# EAGLE library part SAMACSYS_PARTS_IS61WV10248EDBLL-10TLI (library goJAMMAv02)
SRAM 8M, 2.4V-3.6V, 10ns LP Async SRAM Source: Datasheet <https://componentsearchengine.com/Datasheets/1/IS61WV10248EDBLL-10TLI.pdf>
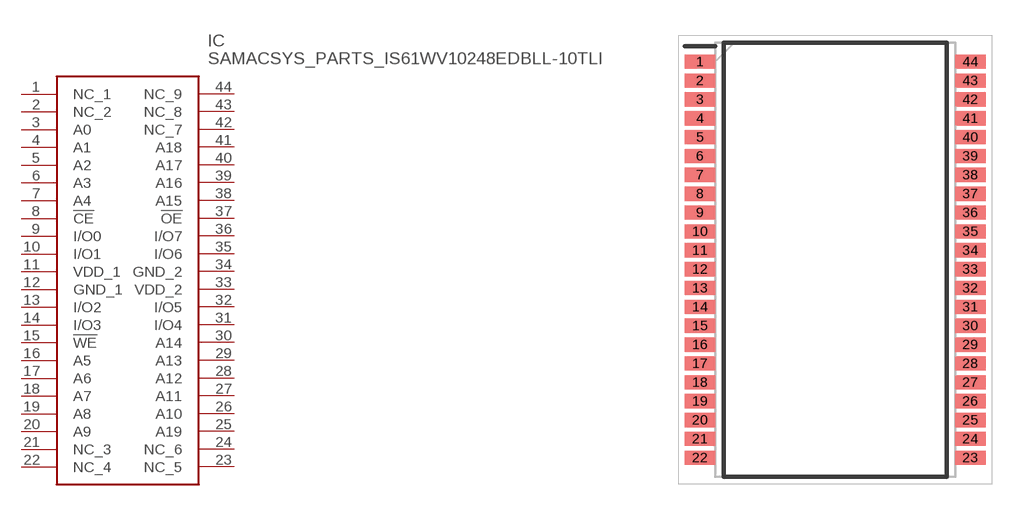
[diagram p5: symbol with the pads of SAMACSYS_PARTS_SOP80P1176X120-44N; footprint SAMACSYS_PARTS_SOP80P1176X120-44N]

Designator prefix IC

## SAMACSYS_PARTS_IS61WV10248EDBLL-10TLI (DESCRIPTION: SRAM 8M, 2.4V-3.6V, 10ns LP Async SRAM; HEIGHT: 1.2mm; MANUFACTURER_NAME: Integrated Silicon Solution Inc.; MANUFACTURER_PART_NUMBER: IS61WV10248EDBLL-10TLI; MOUSER_PART_NUMBER: 870-61WV10EDBLL10TLI)  [SAMACSYS_PARTS_SOP80P1176X120-44N]
1  NC_1
2  NC_2
3  A0
4  A1
5  A2
6  A3
7  A4
8  !CE
9  I/O0
10  I/O1
11  VDD_1
12  GND_1
13  I/O2
14  I/O3
15  !WE
16  A5
17  A6
18  A7
19  A8
20  A9
21  NC_3
22  NC_4
23  NC_5
24  NC_6
25  A19
26  A10
27  A11
28  A12
29  A13
30  A14
31  I/O4
32  I/O5
33  VDD_2
34  GND_2
35  I/O6
36  I/O7
37  !OE
38  A15
39  A16
40  A17
41  A18
42  NC_7
43  NC_8
44  NC_9

## Footprint SAMACSYS_PARTS_SOP80P1176X120-44N (pad centres in mm)
TSSOP44
smd 1.295 x 0.6: 1 -5.728,8.4; 2 -5.728,7.6; 3 -5.728,6.8; 4 -5.728,6; 5 -5.728,5.2; 6 -5.728,4.4; 7 -5.728,3.6; 8 -5.728,2.8; 9 -5.728,2; 10 -5.728,1.2; 11 -5.728,0.4; 12 -5.728,-0.4; 13 -5.728,-1.2; 14 -5.728,-2; 15 -5.728,-2.8; 16 -5.728,-3.6; 17 -5.728,-4.4; 18 -5.728,-5.2; 19 -5.728,-6; 20 -5.728,-6.8; 21 -5.728,-7.6; 22 -5.728,-8.4; 23 5.728,-8.4; 24 5.728,-7.6; 25 5.728,-6.8; 26 5.728,-6; 27 5.728,-5.2; 28 5.728,-4.4; 29 5.728,-3.6; 30 5.728,-2.8; 31 5.728,-2; 32 5.728,-1.2; 33 5.728,-0.4; 34 5.728,0.4; 35 5.728,1.2; 36 5.728,2; 37 5.728,2.8; 38 5.728,3.6; 39 5.728,4.4; 40 5.728,5.2; 41 5.728,6; 42 5.728,6.8; 43 5.728,7.6; 44 5.728,8.4